# Altium schematic symbol library APHHS1005LQBC_D-V.SchLib: 1 symbol
Pins are listed as number, name and electrical type; pins without a type are passive.

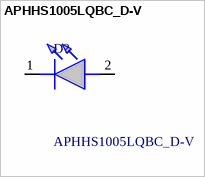
[diagram p0: symbol APHHS1005LQBC_D-V]

## APHHS1005LQBC_D-V
designator D?
LED BLUE CLEAR SMD; Manufacturer_Name: Kingbright; Manufacturer_Part_Number: APHHS1005LQBC/D-V; Geometry.Height: 0.6mm; Mouser Part Number: 604-APHHS1005LQBC/DV; Mouser Price/Stock: https://www.mouser.co.uk/ProductDetail/Kingbright/APHHS1005LQBC-D-V?qs=WbpYJYa8y32aFVn6IIj1Dg%3D%3D; Arrow Part Number: APHHS1005LQBC/D-V; Arrow Price/Stock: https://www.arrow.com/en/products/aphhs1005lqbcd-v/kingbright?region=nac; Datasheet Link: http://www.kingbrightusa.com/images/catalog/SPEC/APHHS1005LQBC-D-V.pdf
footprint APHHS1005LQBCDV
pins: 1 K, 2 A